# EAGLE library part LM311N (library ST_Microelctronics_By_element14_Batch_1)
Voltage comparator with strobe
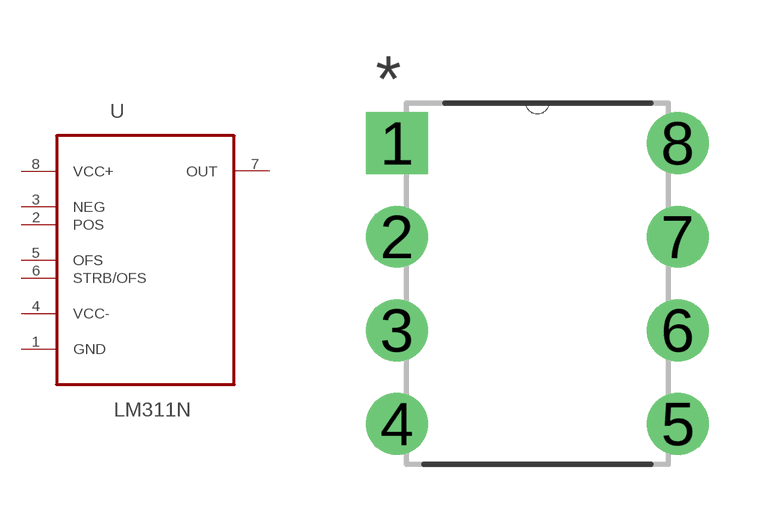
[diagram p109: symbol with the pads of DIP254P762X480-8; footprint DIP254P762X480-8]

Designator prefix U

## LM311N (MPN: LM311N; OC_FARNELL: 9487220; OC_NEWARK: 89K0675; PACKAGE: DIP-8; SUPPLIER: STMICROELECTRONICS)  [DIP254P762X480-8]
1  GND  pas
2  POS  in
3  NEG  in
4  VCC-  pwr
5  OFS  pas
6  STRB/OFS  pas
7  OUT  out
8  VCC+  pwr

## Footprint DIP254P762X480-8 (pad centres in mm)
drill 1.118 square: 1 -7.62,7.62
drill 1.118: 2 -7.62,5.08; 3 -7.62,2.54; 4 -7.62,0; 5 0,0; 6 0,2.54; 7 0,5.08; 8 0,7.62